# EAGLE library part 2199230-4 (library greg-Connector)
CONNECTOR, BACKPLANE, HOUSING, RCPT, 67POS, 2ROW; Connector Type: Card Edge; Seri
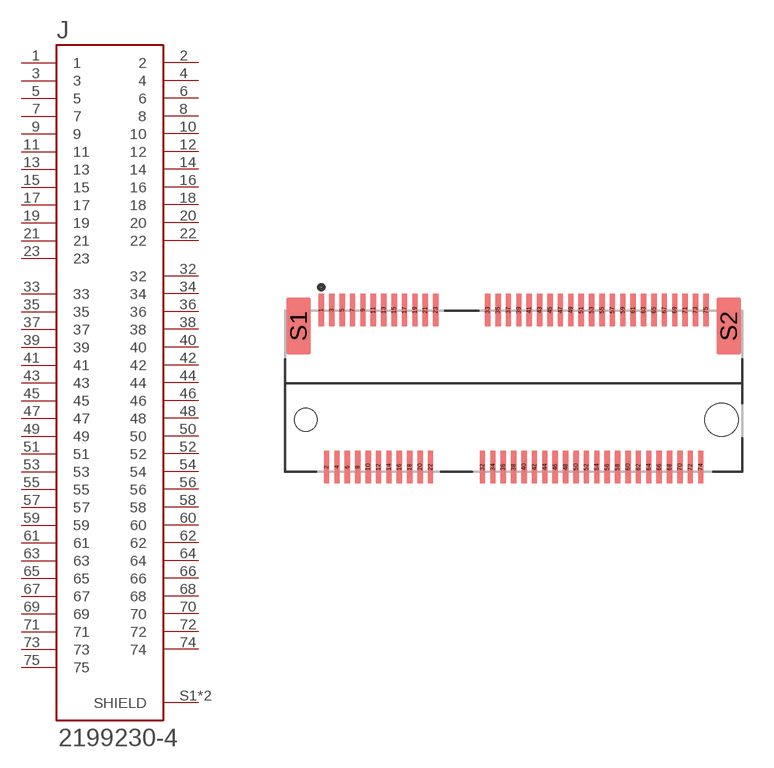
[diagram p11: symbol with the pads of TE_2199230-4; footprint TE_2199230-4]

Designator prefix J

## 2199230-4 (AVAILABILITY: Bad; DESCRIPTION: Connector, Backplane, Housing, Receptacle, 67 Position, 2row; EU_ROHS_COMPLIANCE: Compliant; LINK: http://www.te.com/usa-en/product-2199230-4.html; MF: TE Connectivity; MP: 2199230-4; PACKAGE: None; PRICE: 0.86 USD)  [TE_2199230-4]
1  1  pas
2  2  pas
3  3  pas
4  4  pas
5  5  pas
6  6  pas
7  7  pas
8  8  pas
9  9  pas
10  10  pas
11  11  pas
12  12  pas
13  13  pas
14  14  pas
15  15  pas
16  16  pas
17  17  pas
18  18  pas
19  19  pas
20  20  pas
21  21  pas
22  22  pas
23  23  pas
32  32  pas
33  33  pas
34  34  pas
35  35  pas
36  36  pas
37  37  pas
38  38  pas
39  39  pas
40  40  pas
41  41  pas
42  42  pas
43  43  pas
44  44  pas
45  45  pas
46  46  pas
47  47  pas
48  48  pas
49  49  pas
50  50  pas
51  51  pas
52  52  pas
53  53  pas
54  54  pas
55  55  pas
56  56  pas
57  57  pas
58  58  pas
59  59  pas
60  60  pas
61  61  pas
62  62  pas
63  63  pas
64  64  pas
65  65  pas
66  66  pas
67  67  pas
68  68  pas
69  69  pas
70  70  pas
71  71  pas
72  72  pas
73  73  pas
74  74  pas
75  75  pas
S1  SHIELD  pas
S2  SHIELD  pas

## Footprint TE_2199230-4 (pad centres in mm)
smd 0.3 x 1.55: 1 -9.25,3.525; 2 -9,-4.025; 3 -8.75,3.525; 4 -8.5,-4.025; 5 -8.25,3.525; 6 -8,-4.025; 7 -7.75,3.525; 8 -7.5,-4.025; 9 -7.25,3.525; 10 -7,-4.025; 11 -6.75,3.525; 12 -6.5,-4.025; 13 -6.25,3.525; 14 -6,-4.025; 15 -5.75,3.525; 16 -5.5,-4.025; 17 -5.25,3.525; 18 -5,-4.025; 19 -4.75,3.525; 20 -4.5,-4.025; 21 -4.25,3.525; 22 -4,-4.025; 23 -3.75,3.525; 32 -1.5,-4.025; 33 -1.25,3.525; 34 -1,-4.025; 35 -0.75,3.525; 36 -0.5,-4.025; 37 -0.25,3.525; 38 0,-4.025; 39 0.25,3.525; 40 0.5,-4.025; 41 0.75,3.525; 42 1,-4.025; 43 1.25,3.525; 44 1.5,-4.025; 45 1.75,3.525; 46 2,-4.025; 47 2.25,3.525; 48 2.5,-4.025; 49 2.75,3.525; 50 3,-4.025; 51 3.25,3.525; 52 3.5,-4.025; 53 3.75,3.525; 54 4,-4.025; 55 4.25,3.525; 56 4.5,-4.025; 57 4.75,3.525; 58 5,-4.025; 59 5.25,3.525; 60 5.5,-4.025; 61 5.75,3.525; 62 6,-4.025; 63 6.25,3.525; 64 6.5,-4.025; 65 6.75,3.525; 66 7,-4.025; 67 7.25,3.525; 68 7.5,-4.025; 69 7.75,3.525; 70 8,-4.025; 71 8.25,3.525; 72 8.5,-4.025; 73 8.75,3.525; 74 9,-4.025; 75 9.25,3.525
smd 1.2 x 2.75: S1 -10.35,2.75; S2 10.35,2.75
hole 1.1 at -10,-1.75
hole 1.6 at 10,-1.75